# EAGLE library part ATD_ATYANDEIINO2 (library mylib2)
aitendo あちゃんでいいの2
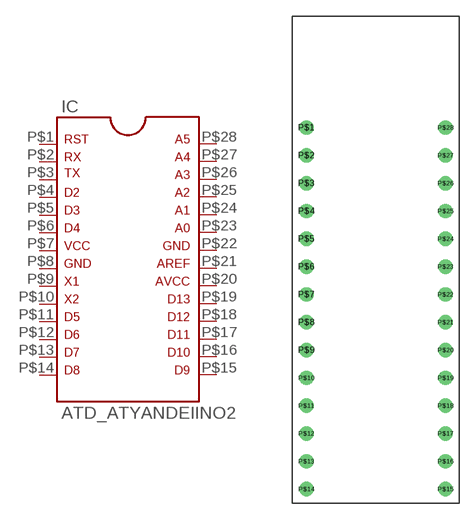
[diagram p19: symbol with the pads of ATD-ATYANDEIINO2; footprint ATD-ATYANDEIINO2]

Designator prefix IC

## ATD_ATYANDEIINO2  [ATD-ATYANDEIINO2]
P$1  1
P$2  2
P$3  3
P$4  4
P$5  5
P$6  6
P$7  7  pwr
P$8  8  pwr
P$9  9
P$10  10
P$11  11
P$12  12
P$13  13
P$14  14
P$15  15
P$16  16
P$17  17
P$18  18
P$19  19
P$20  20  pwr
P$21  21  pwr
P$22  22  pwr
P$23  23
P$24  24
P$25  25
P$26  26
P$27  27
P$28  28

## Footprint ATD-ATYANDEIINO2 (pad centres in mm)
drill 0.8: P$1 -6.35,11.43; P$2 -6.35,8.89; P$3 -6.35,6.35; P$4 -6.35,3.81; P$5 -6.35,1.27; P$6 -6.35,-1.27; P$7 -6.35,-3.81; P$8 -6.35,-6.35; P$9 -6.35,-8.89; P$10 -6.35,-11.43; P$11 -6.35,-13.97; P$12 -6.35,-16.51; P$13 -6.35,-19.05; P$14 -6.35,-21.59; P$15 6.35,-21.59; P$16 6.35,-19.05; P$17 6.35,-16.51; P$18 6.35,-13.97; P$19 6.35,-11.43; P$20 6.35,-8.89; P$21 6.35,-6.35; P$22 6.35,-3.81; P$23 6.35,-1.27; P$24 6.35,1.27; P$25 6.35,3.81; P$26 6.35,6.35; P$27 6.35,8.89; P$28 6.35,11.43